# Altium integrated library GRM188R6YA225MA12D.IntLib: 1 symbol
Pins are listed as number, name and electrical type; pins without a type are passive.

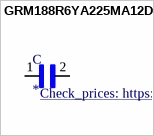
[diagram p0: symbol GRM188R6YA225MA12D]

## GRM188R6YA225MA12D
designator C
SMD capacitor X5R(EIA) with capacitance 2.2uF Tol.20%. Rated voltage 35Vdc 85C; MF: Murata; MP: GRM188R6YA225MA12D; SnapEDA_Link: https://www.snapeda.com/parts/GRM188R6YA225MA12D/Murata%20Electronics%20North%20America/view-part/1769088/?ref=snap; Value: *; Package: 1608 Murata; DigiKey-Purchase-URL: https://snapeda.com/shop?store=DigiKey&id=1769088; Digi-Key_Part_Number: 490-10486-1-ND; Mouser-Purchase-URL: https://snapeda.com/shop?store=Mouser&id=1769088; Check_prices: https://www.snapeda.com/parts/GRM188R6YA225MA12D/Murata%20Electronics%20North%20America/view-part/1769088/?ref=eda
footprint CAPC1608X90N
pins: 1, 2